# EAGLE library part W5500 (library Poe)
TCP/IP embedded Ethernet controller. SPI is provided for easy integration with the external MCU. The W5500's SPI supports 80 MHz speed and new efficient SPI protocol for the high speed network communication. In order to reduce power consumption of the system, W5500 provides WOL and power down mode.
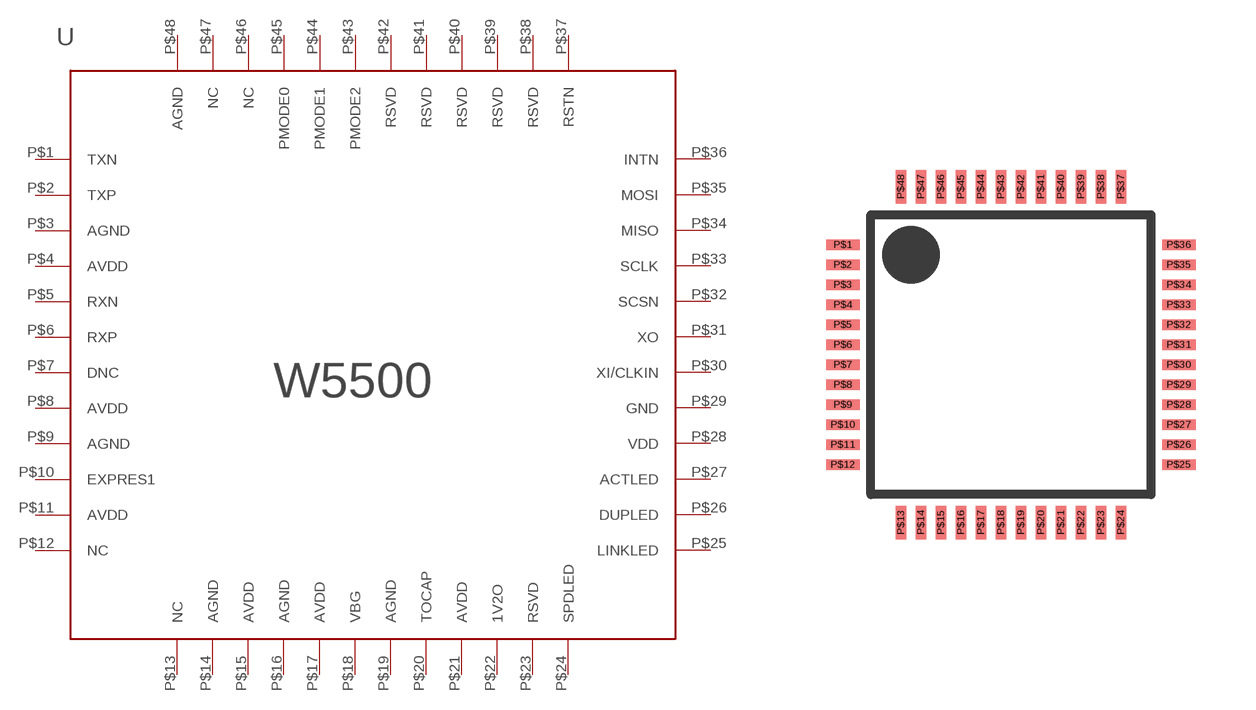
[diagram p8: symbol with the pads of W5500; footprint W5500]

Designator prefix U

## W5500  [W5500]
P$1  TXN
P$2  TXP
P$3  AGND
P$4  AVDD
P$5  RXN
P$6  RXP
P$7  DNC
P$8  AVDD
P$9  AGND
P$10  EXPRES1
P$11  AVDD
P$12  NC
P$13  NC
P$14  AGND
P$15  AVDD
P$16  AGND
P$17  AVDD
P$18  VBG
P$19  AGND
P$20  TOCAP
P$21  AVDD
P$22  1V2O
P$23  RSVD
P$24  SPDLED
P$25  LINKLED
P$26  DUPLED
P$27  ACTLED
P$28  VDD
P$29  GND
P$30  XI/CLKIN
P$31  XO
P$32  SCSN
P$33  SCLK
P$34  MISO
P$35  MOSI
P$36  INTN
P$37  RSTN
P$38  RSVD
P$39  RSVD
P$40  RSVD
P$41  RSVD
P$42  RSVD
P$43  PMODE2
P$44  PMODE1
P$45  PMODE0
P$46  NC
P$47  NC
P$48  AGND

## Footprint W5500 (pad centres in mm)
smd 0.84 x 0.26: P$1 -4.2,2.75; P$2 -4.2,2.25; P$3 -4.2,1.75; P$4 -4.2,1.25; P$5 -4.2,0.75; P$6 -4.2,0.25; P$7 -4.2,-0.25; P$8 -4.2,-0.75; P$9 -4.2,-1.25; P$10 -4.2,-1.75; P$11 -4.2,-2.25; P$12 -4.2,-2.75; P$25 4.2,-2.75; P$26 4.2,-2.25; P$27 4.2,-1.75; P$28 4.2,-1.25; P$29 4.2,-0.75; P$30 4.2,-0.25; P$31 4.2,0.25; P$32 4.2,0.75; P$33 4.2,1.25; P$34 4.2,1.75; P$35 4.2,2.25; P$36 4.2,2.75
smd 0.26 x 0.84: P$13 -2.75,-4.2; P$14 -2.25,-4.2; P$15 -1.75,-4.2; P$16 -1.25,-4.2; P$17 -0.75,-4.2; P$18 -0.25,-4.2; P$19 0.25,-4.2; P$20 0.75,-4.2; P$21 1.25,-4.2; P$22 1.75,-4.2; P$23 2.25,-4.2; P$24 2.75,-4.2; P$37 2.75,4.2; P$38 2.25,4.2; P$39 1.75,4.2; P$40 1.25,4.2; P$41 0.75,4.2; P$42 0.25,4.2; P$43 -0.25,4.2; P$44 -0.75,4.2; P$45 -1.25,4.2; P$46 -1.75,4.2; P$47 -2.25,4.2; P$48 -2.75,4.2